# Altium footprint library ConnRibbon.PcbLib: 2 footprints
Each footprint in its own frame and in the unit in brackets; x right, y up, seen from the top. Pads: shape width x height; smd on the part's side, far side on the other; paste and mask are expansions set on the pad; w line width, h text height; cw(c..) or ccw(c..) is an arc to the next point about the centre after c.
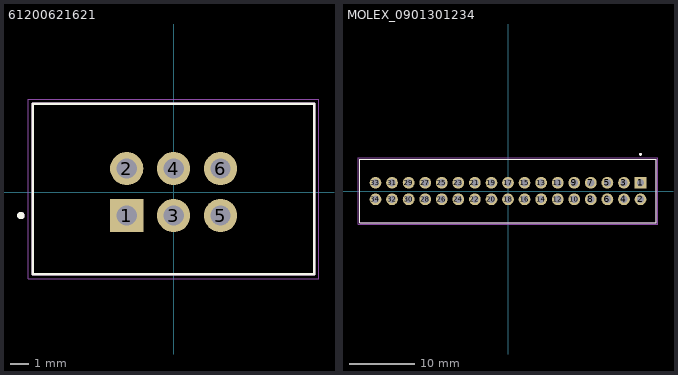
[diagram p0: the footprints below, top view; thin cyan lines are the x and y axes]

## 61200621621 [mm] "RIBBON SHROUDED 2X3-2.54"
pads (6):
  rect 1.8x1.8 hole 1.1: 1(-2.54,-1.27)
  round 1.8 hole 1.1: 2(-2.54,1.27) 3(0,-1.27) 4(0,1.27) 5(2.54,-1.27) 6(2.54,1.27)
Top Overlay:
  circle w0.2: c-8.27,-1.27 r0.1
  lines w0.127: -7.62,-4.445 -7.62,4.775 7.62,4.775 7.62,-4.445 -7.62,-4.445
Mechanical 13:
  circle w0.2: c-8.27,-1.27 r0.1
  lines w0.127: -7.62,-4.445 -7.62,4.775 ; -7.62,-4.445 7.62,-4.445 ; -7.62,-4.445 -7.62,4.775 ; -7.62,4.775 7.62,4.775 ; -7.62,4.775 7.62,4.775 ; 7.62,-4.445 7.62,4.775 ; 7.62,-4.445 7.62,4.775
Mechanical 15:
  lines w0.05: -7.87,-4.695 -7.87,5.025 7.87,5.025 7.87,-4.695 -7.87,-4.695
3D body "1761681-1.stp": height 9.2, standoff -2.92, extent -7.62,-4.445 7.62,4.775

## MOLEX_0901301234 [mm]
pads (34):
  rect 1.8x1.8 hole 1.1: 1(20.32,1.27)
  round 1.8 hole 1.1: 2(20.32,-1.27) 3(17.78,1.27) 4(17.78,-1.27) 5(15.24,1.27) 6(15.24,-1.27) 7(12.7,1.27) 8(12.7,-1.27) 9(10.16,1.27) 10(10.16,-1.27) 11(7.62,1.27) 12(7.62,-1.27) 13(5.08,1.27) 14(5.08,-1.27) 15(2.54,1.27) 16(2.54,-1.27) 17(0,1.27) 18(0,-1.27) 19(-2.54,1.27) 20(-2.54,-1.27) 21(-5.08,1.27) 22(-5.08,-1.27) 23(-7.62,1.27) 24(-7.62,-1.27) 25(-10.16,1.27) 26(-10.16,-1.27) 27(-12.7,1.27) 28(-12.7,-1.27) 29(-15.24,1.27) 30(-15.24,-1.27) 31(-17.78,1.27) 32(-17.78,-1.27) 33(-20.32,1.27) 34(-20.32,-1.27)
Top Overlay:
  circle w0.2: c20.325,5.625 r0.1
  lines w0.127: -22.76,-4.875 22.76,-4.875 22.76,4.875 -22.76,4.875 -22.76,-4.875
Mechanical 13:
  circle w0.2: c20.325,5.625 r0.1
  lines w0.127: -10.16,4.875 -22.76,4.875 ; -22.76,4.875 22.76,4.875 22.76,-4.875 -22.76,-4.875 -22.76,4.875
Mechanical 15:
  lines w0.05: -23,-5.1 23,-5.1 23,5.1 -23,5.1 -23,-5.1
3D body "901301234.stp": height 10.95, standoff -2.85, extent -22.76,-4.875 22.76,4.875